# Altium footprint library Solin.PcbLib: 19 footprints (part 1 of 2)
Each footprint in its own frame and in the unit in brackets; x right, y up, seen from the top. Pads: shape width x height; smd on the part's side, far side on the other; paste and mask are expansions set on the pad; w line width, h text height; cw(c..) or ccw(c..) is an arc to the next point about the centre after c.
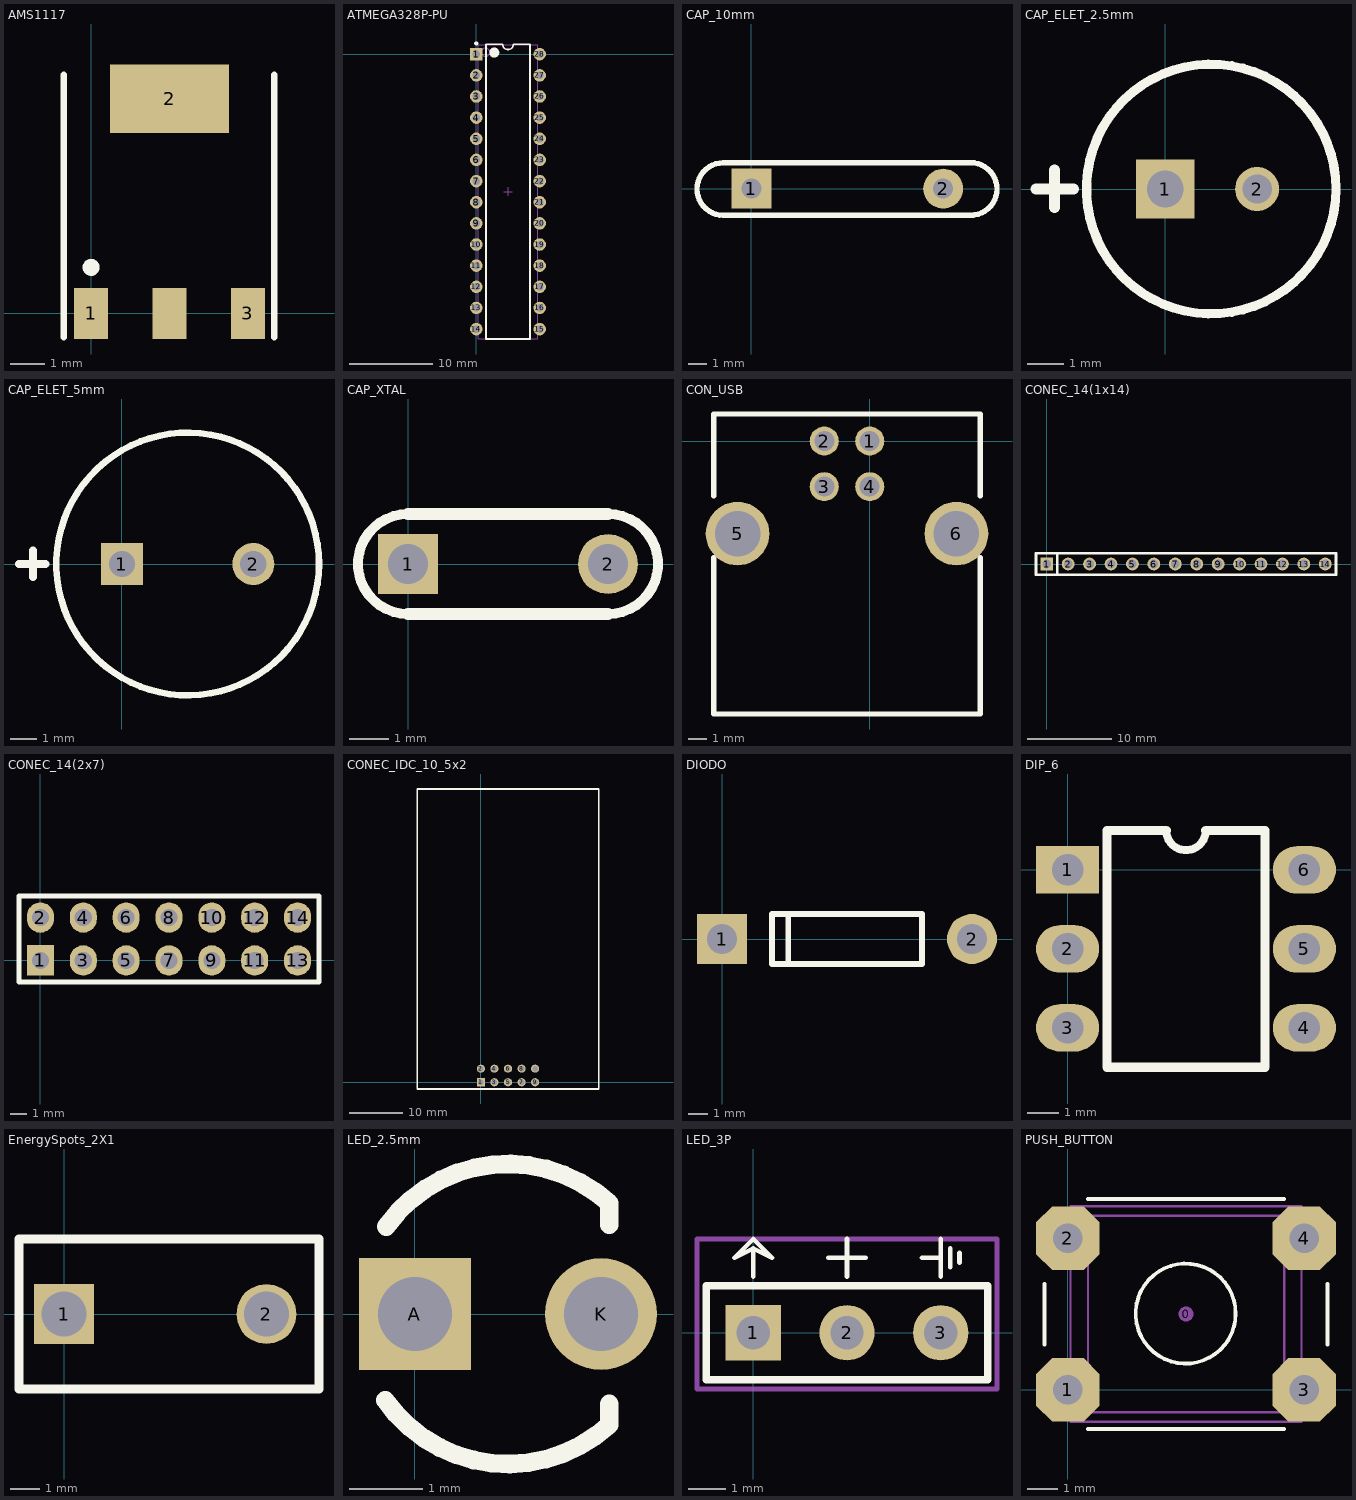
[diagram p0: the footprints below, top view; thin cyan lines are the x and y axes]

## AMS1117 [mm]
pads (4):
  rect 1x1.5 smd: 1(0,0) 3(4.6,0) ""(2.3,0)
  rect 3.5x2 smd: 2(2.3,6.3)
Top Overlay:
  circle w0.25: c0,1.35 r0.125
  lines w0.2: -0.8,-0.7 -0.8,7 ; 5.37,-0.7 5.37,7

## ATMEGA328P-PU [mm]
pads (28):
  rect 1.5x1.5 hole 0.9: 1(0,0)
  round 1.5 hole 0.9: 2(0,-2.54) 3(0,-5.08) 4(0,-7.62) 5(0,-10.16) 6(0,-12.7) 7(0,-15.24) 8(0,-17.78) 9(0,-20.32) 10(0,-22.86) 11(0,-25.4) 12(0,-27.94) 13(0,-30.48) 14(0,-33.02) 15(7.62,-33.02) 16(7.62,-30.48) 17(7.62,-27.94) 18(7.62,-25.4) 19(7.62,-22.86) 20(7.62,-20.32) 21(7.62,-17.78) 22(7.62,-15.24) 23(7.62,-12.7) 24(7.62,-10.16) 25(7.62,-7.62) 26(7.62,-5.08) 27(7.62,-2.54) 28(7.62,0)
Top Overlay:
  circle w0.25: c0,1.3 r0.125
  circle w0.6: c2.16,0.19 r0.3
  lines w0.2: 1.16,-34.21 1.16,1.19 3.175,1.19 ccw(c3.81,1.19) 4.445,1.19 6.46,1.19 6.46,-34.21 1.16,-34.21
Mechanical 13:
  circle w0.1: c1.11,0.24 r0.5
  lines w0.1: 0.21,-34.16 0.21,1.14 7.41,1.14 7.41,-34.16 0.21,-34.16
Mechanical 15:
  lines w0.1: 3.31,-16.51 4.31,-16.51 ; 3.81,-17.01 3.81,-16.01
3D body: height 4.58, standoff 0, extent 0.21,-34.16 7.41,1.14

## CAP_10mm [mm]
pads (2):
  rect 2.2x2.2 hole 1.1: 1(0,0)
  round 2.2 hole 1.1: 2(10.55,0)
Top Overlay:
  lines w0.3: -1.55,-1.464 cw(c-1.55,-0.02) -1.55,1.424 ; -1.5,-1.462 12.2,-1.462 ; -1.5,1.426 12.2,1.426 ; 12.063,-1.46 ccw(c12.063,-0.016) 12.063,1.428

## CAP_ELET_2.5mm [mm]
pads (2):
  rect 1.6x1.6 hole 1: 1(0,0)
  round 1.2 hole 0.8: 2(2.5,0)
Top Overlay:
  circle w0.254: c1.25,0 r3.4
  lines w0.3: -3.525,0.005 -2.509,0.005 ; -3.018,-0.503 -3.018,0.513

## CAP_ELET_5mm [mm]
pads (2):
  rect 1.6x1.6 hole 1: 1(0,0)
  round 1.6 hole 1: 2(5,0)
Top Overlay:
  circle w0.254: c2.5,0 r5
  lines w0.3: -3.92,0.005 -2.904,0.005 ; -3.38,-0.501 -3.38,0.515

## CAP_XTAL [mil]
pads (2):
  rect 60x60 hole 40: 1(0,0)
  round 60 hole 40: 2(200,0)
Top Overlay:
  lines w10: 0,-50 cw(c0,0) 0,50 ; 200,-50 ccw(c200,0) 200,50
  lines w11.81: 0,-50 200,-50 ; 0,50 200,50

## CON_USB [mm]
pads (6):
  round 1.6 hole 1.1: 1(0,0) 2(-2.5,0) 3(-2.5,-2.508) 4(0,-2.508)
  round 3.5 hole 2.5: 5(-7.27,-5.091) 6(4.77,-5.091)
Top Overlay:
  lines w0.3: -8.57,-6.41 -8.57,-15.01 6.07,-15.01 6.07,-6.41 ; -8.57,-3.01 -8.57,1.49 6.07,1.49 6.07,-3.01
3D body: height 11.01, standoff -2.78, extent -7.81,-14.922 5.31,1.018

## CONEC_14(1x14) [mil]
pads (14):
  rect 60x60 hole 40: 1(0,0)
  round 60 hole 40: 2(100,0) 3(200,0) 4(300,0) 5(400,0) 6(500,0) 7(600,0) 8(700,0) 9(800,0) 10(900,0) 11(1000,0) 12(1100,0) 13(1200,0) 14(1300,0)
Top Overlay:
  lines w11.81: 50,-50 50,50 -50,50 ; -50,50 -50,-50 1350,-50 1350,50 -50,50

## CONEC_14(2x7) [mm]
pads (14):
  rect 1.6x1.8 hole 1.016: 1(0,0)
  oval 1.6x1.8 hole 1.016: 2(0,2.54) 3(2.54,0) 4(2.54,2.54) 5(5.08,0) 6(5.08,2.54) 7(7.62,0) 8(7.62,2.54) 9(10.16,0) 10(10.16,2.54) 11(12.7,0) 12(12.7,2.54) 13(15.24,0) 14(15.24,2.54)
Top Overlay:
  lines w0.3: -1.27,-1.27 -1.27,3.81 16.51,3.81 16.51,-1.27 -1.27,-1.27

## CONEC_IDC_10_5x2 [mil]
pads (10):
  rect 60x60 hole 40: 1(0,0)
  round 60 hole 40: 2(0,100) 3(100,0) 4(100,100) 5(200,0) 6(200,100) 7(300,0) 8(300,100) 9(400,0) 10(400,100)
Top Overlay:
  lines w11.81: -469.29,-50 869.29,-50 869.29,2165.35 -469.29,2165.35 -469.29,-50

## DIODO [mil]
pads (2):
  rect 100x100 hole 60: 1(0,0)
  round 100 hole 60: 2(500,0)
Top Overlay:
  lines w11.81: 132.5,-50 132.5,50 ; 100,-50 100,50 400,50 400,-50 100,-50

## DIP_6 [mil]
pads (6):
  rect 80x60 hole 40: 1(0,0)
  oval 80x60 hole 40: 2(0,-100) 3(0,-200) 4(300,-200) 5(300,-100) 6(300,0)
Top Overlay:
  lines w10: 125,50 ccw(c150,50) 175,50
  lines w11.81: 125,50 50,50 50,-250 250,-250 250,50 175,50

## EnergySpots_2X1 [mil]
pads (2):
  rect 80x80 hole 60: 1(0,0)
  round 80 hole 60: 2(270,0)
Top Overlay:
  lines w11.81: -60,-100 -60,100 40,100 340,100 340,-100 40,-100 -60,-100

## LED_2.5mm [mil]
pads (2):
  rect 60x60 hole 40: A(0,0)
  round 60 hole 40: K(100,0)
Top Overlay:
  lines w10: -16,-46.3 ccw(c50,0) 104.48,-59.43 104.48,-48.39 ; -15.47,47.05 cw(c50,0) 104.48,59.43 104.48,48
3D body: height 276.09, standoff -38.87, extent -15,-65.4 114.92,64.08

## LED_3P [mm]
pads (3):
  rect 1.5x1.5 hole 0.9: 1(0,0)
  round 1.5 hole 0.9: 2(2.54,0) 3(5.08,0)
Top Overlay:
  lines w0.127: 0,1.524 0,2.286 ; 2.032,2.032 3.048,2.032 ; 2.54,1.524 2.54,2.54 ; 4.572,2.032 5.08,2.032 5.08,2.54 5.08,1.524 ; 5.334,1.778 5.334,2.286 ; 5.588,1.905 5.588,2.159 ; 0,2.286 -0.508,2.032 0,2.54 0.508,2.032 0,2.286
  lines w0.2: -1.27,-1.27 -1.27,1.27 6.35,1.27 6.35,-1.27 -1.27,-1.27
Mechanical 15:
  lines w0.127: -1.524,-1.524 -1.524,2.54 6.604,2.54 6.604,-1.524 -1.524,-1.524

## PUSH_BUTTON [mm]
pads (5):
  round 0.508 on Mech15: 0(3.9,2.5)
  oct 2.1x2.1 hole 0.965: 1(0,0) 2(0,5) 3(7.8,0) 4(7.8,5)
Top Overlay:
  circle w0.127: c3.889,2.514 r1.65
  lines w0.127: -0.77,1.5 -0.77,3.5 ; 0.661,-1.291 7.14,-1.291 ; 0.668,6.294 7.14,6.294 ; 8.57,1.5 8.57,3.5
Mechanical 13:
  circle w0.076: c3.889,2.514 r1.65
  lines w0.076: 0.668,-0.737 0.668,5.74 7.14,5.74 7.14,-0.737 0.668,-0.737
Mechanical 15:
  lines w0.076: 0.09,-1.056 7.71,-1.056 7.71,6.056 0.09,6.056 0.09,-1.056
3D body: height 5, standoff -3.9, extent -0.556,-1.1 8.356,6.1